# EAGLE library part 255-410-5 (library con-wago255)
WAGO
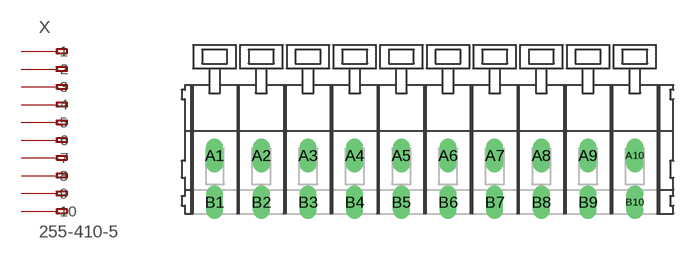
[diagram p85: symbol with the pads of 255-410-5; footprint 255-410-5]

Designator prefix X

## 255-410-5 (OC_FARNELL: unknown; OC_NEWARK: unknown)  [255-410-5]
A1  -1  pas
A2  -2  pas
A3  -3  pas
A4  -4  pas
A5  -5  pas
A6  -6  pas
A7  -7  pas
A8  -8  pas
A9  -9  pas
A10  -10  pas
B1  B-1  pas
B2  B-2  pas
B3  B-3  pas
B4  B-4  pas
B5  B-5  pas
B6  B-6  pas
B7  B-7  pas
B8  B-8  pas
B9  B-9  pas
B10  B-10  pas

## Footprint 255-410-5 (pad centres in mm)
Grid 5.0 mm
drill 1.2 long: A1 -22.5,0; A2 -17.5,0; A3 -12.5,0; A4 -7.5,0; A5 -2.5,0; A6 2.5,0; A7 7.5,0; A8 12.5,0; A9 17.5,0; A10 22.5,0; B1 -22.5,-5; B2 -17.5,-5; B3 -12.5,-5; B4 -7.5,-5; B5 -2.5,-5; B6 2.5,-5; B7 7.5,-5; B8 12.5,-5; B9 17.5,-5; B10 22.5,-5